# Altium footprint library APSS Connectors.PcbLib: 91 footprints (part 1 of 6)
Each footprint in its own frame and in the unit in brackets; x right, y up, seen from the top. Pads: shape width x height; smd on the part's side, far side on the other; paste and mask are expansions set on the pad; w line width, h text height; cw(c..) or ccw(c..) is an arc to the next point about the centre after c.
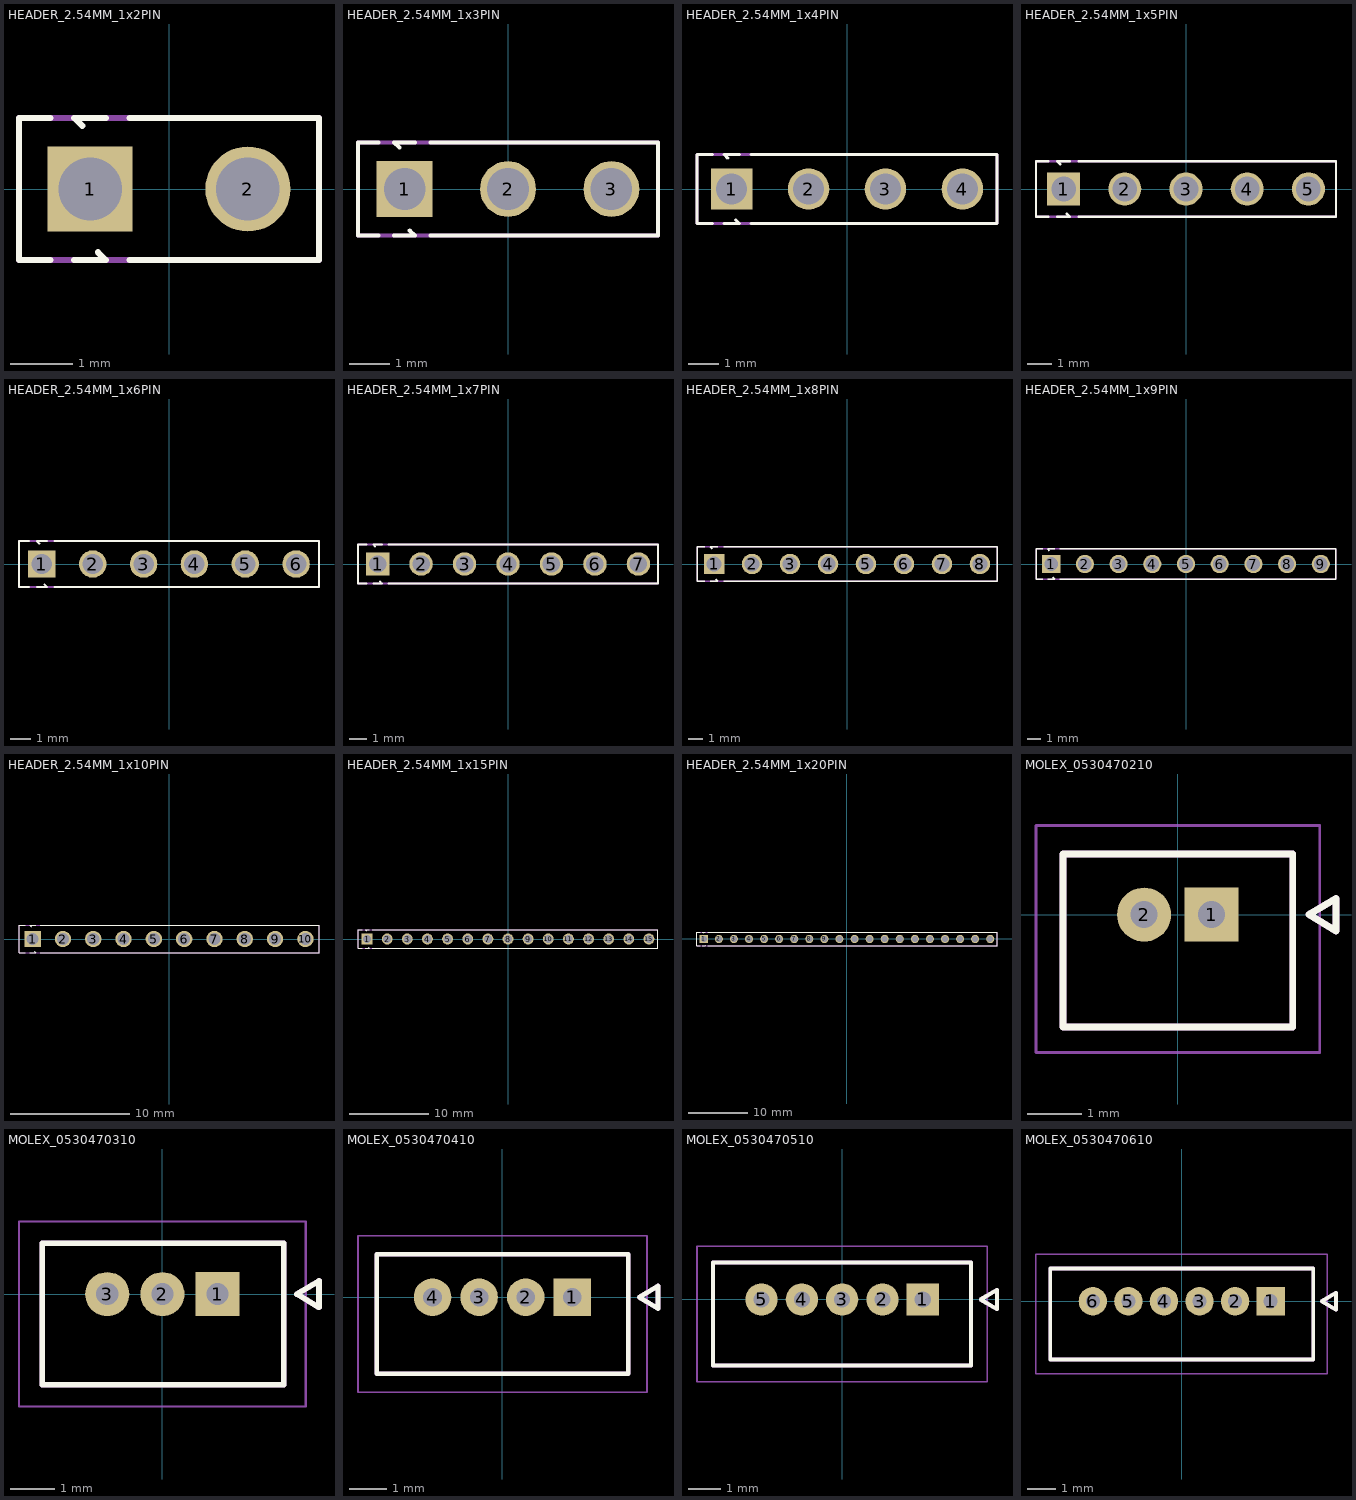
[diagram p0: the footprints below, top view; thin cyan lines are the x and y axes]

## HEADER_2.54MM_1x2PIN [mm]
pads (2):
  rect 1.37x1.37 hole 1.02: 1(-1.27,0)
  round 1.37 hole 1.02: 2(1.27,0)
Top Overlay:
  lines w0.1: -1.905,-1.143 -2.413,-1.143 -2.413,1.143 -1.905,1.143 ; -1.524,-1.143 -1.016,-1.143 -1.143,-1.016 ; -1.397,1.016 -1.524,1.143 -1.016,1.143 ; -0.635,-1.143 2.413,-1.143 2.413,1.143 -0.635,1.143
Mechanical 15:
  lines w0.1: -2.413,-1.143 -2.413,1.143 2.413,1.143 2.413,-1.143 -2.413,-1.143
3D body: height 8.2, standoff -3, extent -2.413,-1.143 2.413,1.143

## HEADER_2.54MM_1x3PIN [mm]
pads (3):
  rect 1.37x1.37 hole 1.02: 1(-2.54,0)
  round 1.37 hole 1.02: 2(0,0) 3(2.54,0)
Top Overlay:
  lines w0.1: -3.175,-1.143 -3.683,-1.143 -3.683,1.143 -3.175,1.143 ; -2.794,-1.143 -2.286,-1.143 -2.413,-1.016 ; -2.667,1.016 -2.794,1.143 -2.286,1.143 ; -1.905,-1.143 3.683,-1.143 3.683,1.143 -1.905,1.143
Mechanical 15:
  lines w0.1: -3.683,-1.143 -3.683,1.143 3.683,1.143 3.683,-1.143 -3.683,-1.143
3D body: height 8.2, standoff -3, extent -3.683,-1.143 3.683,1.143

## HEADER_2.54MM_1x4PIN [mm]
pads (4):
  rect 1.37x1.37 hole 1.02: 1(-3.81,0)
  round 1.37 hole 1.02: 2(-1.27,0) 3(1.27,0) 4(3.81,0)
Top Overlay:
  lines w0.1: -4.445,-1.143 -4.953,-1.143 -4.953,1.143 -4.445,1.143 ; -4.064,-1.143 -3.556,-1.143 -3.683,-1.016 ; -3.937,1.016 -4.064,1.143 -3.556,1.143 ; -3.175,-1.143 4.953,-1.143 4.953,1.143 -3.175,1.143
Mechanical 15:
  lines w0.1: -4.953,-1.143 -4.953,1.143 4.953,1.143 4.953,-1.143 -4.953,-1.143
3D body: height 8.2, standoff -3, extent -4.953,-1.143 4.953,1.143

## HEADER_2.54MM_1x5PIN [mm]
pads (5):
  rect 1.37x1.37 hole 1.02: 1(-5.08,0)
  round 1.37 hole 1.02: 2(-2.54,0) 3(0,0) 4(2.54,0) 5(5.08,0)
Top Overlay:
  lines w0.1: -5.715,-1.143 -6.223,-1.143 -6.223,1.143 -5.715,1.143 ; -5.334,-1.143 -4.826,-1.143 -4.953,-1.016 ; -5.207,1.016 -5.334,1.143 -4.826,1.143 ; -4.445,-1.143 6.223,-1.143 6.223,1.143 -4.445,1.143
Mechanical 15:
  lines w0.1: -6.223,-1.143 6.223,-1.143 6.223,1.143 -6.223,1.143 -6.223,-1.143
3D body: height 8.2, standoff -3, extent -6.213,-1.143 6.223,1.143

## HEADER_2.54MM_1x6PIN [mm]
pads (6):
  rect 1.37x1.37 hole 1.02: 1(-6.35,0)
  round 1.37 hole 1.02: 2(-3.81,0) 3(-1.27,0) 4(1.27,0) 5(3.81,0) 6(6.35,0)
Top Overlay:
  lines w0.1: -6.985,-1.143 -7.493,-1.143 -7.493,1.143 -6.985,1.143 ; -6.604,-1.143 -6.096,-1.143 -6.223,-1.016 ; -6.477,1.016 -6.604,1.143 -6.096,1.143 ; -5.715,-1.143 7.493,-1.143 7.493,1.143 -5.715,1.143
Mechanical 15:
  lines w0.1: -7.493,-1.143 -7.493,1.143 7.493,1.143 7.493,-1.143 -7.493,-1.143
3D body: height 8.2, standoff -3, extent -7.493,-1.143 7.493,1.143

## HEADER_2.54MM_1x7PIN [mm]
pads (7):
  rect 1.37x1.37 hole 1.02: 1(-7.62,0)
  round 1.37 hole 1.02: 2(-5.08,0) 3(-2.54,0) 4(0,0) 5(2.54,0) 6(5.08,0) 7(7.62,0)
Top Overlay:
  lines w0.1: -8.255,-1.143 -8.763,-1.143 -8.763,1.143 -8.255,1.143 ; -7.874,-1.143 -7.366,-1.143 -7.493,-1.016 ; -7.747,1.016 -7.874,1.143 -7.366,1.143 ; -6.985,-1.143 8.763,-1.143 8.763,1.143 -6.985,1.143
Mechanical 15:
  lines w0.1: -8.763,-1.143 -8.763,1.143 8.763,1.143 8.763,-1.143 -8.763,-1.143
3D body: height 8.2, standoff -3, extent -8.763,-1.143 8.763,1.143

## HEADER_2.54MM_1x8PIN [mm]
pads (8):
  rect 1.37x1.37 hole 1.02: 1(-8.89,0)
  round 1.37 hole 1.02: 2(-6.35,0) 3(-3.81,0) 4(-1.27,0) 5(1.27,0) 6(3.81,0) 7(6.35,0) 8(8.89,0)
Top Overlay:
  lines w0.1: -9.525,-1.143 -10.033,-1.143 -10.033,1.143 -9.525,1.143 ; -9.144,-1.143 -8.636,-1.143 -8.763,-1.016 ; -9.017,1.016 -9.144,1.143 -8.636,1.143 ; -8.255,-1.143 10.033,-1.143 10.033,1.143 -8.255,1.143
Mechanical 15:
  lines w0.1: -10.033,-1.143 -10.033,1.143 10.033,1.143 10.033,-1.143 -10.033,-1.143
3D body: height 8.2, standoff -3, extent -10.033,-1.143 10.033,1.143

## HEADER_2.54MM_1x9PIN [mm]
pads (9):
  rect 1.37x1.37 hole 1.02: 1(-10.16,0)
  round 1.37 hole 1.02: 2(-7.62,0) 3(-5.08,0) 4(-2.54,0) 5(0,0) 6(2.54,0) 7(5.08,0) 8(7.62,0) 9(10.16,0)
Top Overlay:
  lines w0.1: -10.795,-1.143 -11.303,-1.143 -11.303,1.143 -10.795,1.143 ; -10.414,-1.143 -9.906,-1.143 -10.033,-1.016 ; -10.287,1.016 -10.414,1.143 -9.906,1.143 ; -9.525,-1.143 11.303,-1.143 11.303,1.143 -9.525,1.143
Mechanical 15:
  lines w0.1: -11.303,-1.143 11.303,-1.143 11.303,1.143 -11.303,1.143 -11.303,-1.143
3D body: height 8.2, standoff -3, extent -11.303,-1.143 11.303,1.143

## HEADER_2.54MM_1x10PIN [mm]
pads (10):
  rect 1.37x1.37 hole 1.02: 1(-11.43,0)
  round 1.37 hole 1.02: 2(-8.89,0) 3(-6.35,0) 4(-3.81,0) 5(-1.27,0) 6(1.27,0) 7(3.81,0) 8(6.35,0) 9(8.89,0) 10(11.43,0)
Top Overlay:
  lines w0.1: -12.065,-1.143 -12.573,-1.143 -12.573,1.143 -12.065,1.143 ; -11.684,-1.143 -11.176,-1.143 -11.303,-1.016 ; -11.557,1.016 -11.684,1.143 -11.176,1.143 ; -10.795,-1.143 12.573,-1.143 12.573,1.143 -10.795,1.143
Mechanical 15:
  lines w0.1: -12.573,-1.143 12.573,-1.143 12.573,1.143 -12.573,1.143 -12.573,-1.143
3D body: height 8.2, standoff -3, extent -12.573,-1.143 12.573,1.143

## HEADER_2.54MM_1x15PIN [mm]
pads (15):
  rect 1.37x1.37 hole 1.02: 1(-17.78,0)
  round 1.37 hole 1.02: 2(-15.24,0) 3(-12.7,0) 4(-10.16,0) 5(-7.62,0) 6(-5.08,0) 7(-2.54,0) 8(0,0) 9(2.54,0) 10(5.08,0) 11(7.62,0) 12(10.16,0) 13(12.7,0) 14(15.24,0) 15(17.78,0)
Top Overlay:
  lines w0.1: -18.415,-1.143 -18.923,-1.143 -18.923,1.143 -18.415,1.143 ; -18.034,-1.143 -17.526,-1.143 -17.653,-1.016 ; -17.907,1.016 -18.034,1.143 -17.526,1.143 ; -17.145,-1.143 18.923,-1.143 18.923,1.143 -17.145,1.143
Mechanical 15:
  lines w0.1: -18.923,-1.143 18.923,-1.143 18.923,1.143 -18.923,1.143 -18.923,-1.143
3D body: height 8.2, standoff -3, extent -18.923,-1.143 18.923,1.143

## HEADER_2.54MM_1x20PIN [mm]
pads (20):
  rect 1.37x1.37 hole 1.02: 1(-24.13,0)
  round 1.37 hole 1.02: 2(-21.59,0) 3(-19.05,0) 4(-16.51,0) 5(-13.97,0) 6(-11.43,0) 7(-8.89,0) 8(-6.35,0) 9(-3.81,0) 10(-1.27,0) 11(1.27,0) 12(3.81,0) 13(6.35,0) 14(8.89,0) 15(11.43,0) 16(13.97,0) 17(16.51,0) 18(19.05,0) 19(21.59,0) 20(24.13,0)
Top Overlay:
  lines w0.1: -24.765,-1.143 -25.273,-1.143 -25.273,1.143 -24.765,1.143 ; -24.384,-1.143 -23.876,-1.143 -24.003,-1.016 ; -24.257,1.016 -24.384,1.143 -23.876,1.143 ; -23.495,-1.143 25.273,-1.143 25.273,1.143 -23.495,1.143
Mechanical 15:
  lines w0.1: -25.273,-1.143 25.273,-1.143 25.273,1.143 -25.273,1.143 -25.273,-1.143
3D body: height 8.2, standoff -3, extent -25.273,-1.143 25.273,1.143

## MOLEX_0530470210 [mm]
height 4.2
pads (2):
  rect 1x1 hole 0.5 mask+0.051: 1(0.625,0)
  round 1 hole 0.5 mask+0.051: 2(-0.625,0)
Top Overlay:
  lines w0.127: -2.125,-2.075 2.125,-2.075 2.125,1.125 -2.125,1.125 -2.125,-2.075 ; 2.425,0 2.925,-0.3 2.925,0.3 2.425,0
Mechanical 13:
  lines w0.127: -2.125,-2.075 -2.125,1.125 2.125,1.125 2.125,-2.075 -2.125,-2.075 ; 2.425,0 2.925,-0.3 2.925,0.3 2.425,0
Mechanical 15:
  lines w0.05: -2.625,-2.55 2.625,-2.55 2.625,1.65 -2.625,1.65 -2.625,-2.55
3D body "530470210.stp": height 4.21, standoff -2.29, extent -2.125,-2.057 2.125,1.143

## MOLEX_0530470310 [mm] "Header - Picoblade 03-pin, TH, STR, 4.2mm height"
height 4.2
pads (3):
  rect 1x1 hole 0.5 mask+0.051: 1(1.25,0)
  round 1 hole 0.5 mask+0.051: 2(0,0) 3(-1.25,0)
Top Overlay:
  lines w0.127: -2.725,-2.05 2.75,-2.05 2.75,1.15 -2.725,1.15 -2.725,-2.05 ; 3.05,0 3.55,0.3 3.55,-0.3 3.05,0
Mechanical 13:
  lines w0.127: -2.725,-2.05 2.75,-2.05 2.75,1.15 -2.725,1.15 -2.725,-2.05 ; 3.05,0 3.55,0.3 3.55,-0.3 3.05,0
Mechanical 15:
  lines w0.05: -3.25,-2.55 -3.25,1.65 3.25,1.65 3.25,-2.55 -3.25,-2.55
3D body "530470310.stp": height 4.21, standoff -2.29, extent -2.753,-2.057 2.747,1.143

## MOLEX_0530470410 [mm]
height 4.2
pads (4):
  rect 1.008x1.008 hole 0.5 mask+0.051: 1(1.875,0)
  round 1.008 hole 0.5 mask+0.051: 2(0.625,0) 3(-0.625,0) 4(-1.875,0)
Top Overlay:
  lines w0.127: -3.375,-2.05 3.375,-2.05 3.375,1.15 -3.375,1.15 -3.375,-2.05 ; 3.675,0 4.175,0.3 4.175,-0.3 3.675,0
Mechanical 13:
  lines w0.127: -3.375,-2.05 3.375,-2.05 3.375,1.15 -3.375,1.15 -3.375,-2.05 ; 3.675,0 4.175,0.3 4.175,-0.3 3.675,0
Mechanical 15:
  lines w0.05: -3.875,-2.55 3.875,-2.55 3.875,1.65 -3.875,1.65 -3.875,-2.55
3D body "530470410.stp": height 4.21, standoff -2.29, extent -3.375,-2.057 3.375,1.143

## MOLEX_0530470510 [mm] "Header - Picoblade 05-pin, TH, STR, 4.2mm height"
height 4.2
pads (5):
  rect 1x1 hole 0.5 mask+0.051: 1(2.5,0)
  round 1 hole 0.5 mask+0.051: 2(1.25,0) 3(0,0) 4(-1.25,0) 5(-2.5,0)
Top Overlay:
  lines w0.127: -4.002,-2.05 -4.002,1.15 4,1.15 4,-2.05 -4.002,-2.05 ; 4.3,0 4.8,-0.3 4.8,0.3 4.3,0
Mechanical 13:
  lines w0.127: -4.002,-2.05 4,-2.05 4,1.15 -4.002,1.15 -4.002,-2.05 ; 4.3,0 4.8,-0.3 4.8,0.3 4.3,0
Mechanical 15:
  lines w0.05: -4.5,-2.55 -4.5,1.65 4.5,1.65 4.5,-2.55 -4.5,-2.55
3D body "0530470510.step": height 4.21, standoff -2.29, extent -4.015,-2.057 3.985,1.143

## MOLEX_0530470610 [mm]
height 4.2
pads (6):
  rect 1x1 hole 0.5 mask+0.051: 1(3.125,0)
  round 1 hole 0.5 mask+0.051: 2(1.875,0) 3(0.625,0) 4(-0.625,0) 5(-1.875,0) 6(-3.125,0)
Top Overlay:
  lines w0.127: -4.625,-2.05 4.625,-2.05 4.625,1.15 -4.625,1.15 -4.625,-2.05 ; 4.925,0 5.425,-0.3 5.425,0.3 4.925,0
Mechanical 13:
  lines w0.127: -4.625,-2.05 4.625,-2.05 4.625,1.15 -4.625,1.15 -4.625,-2.05 ; 4.925,0 5.425,-0.3 5.425,0.3 4.925,0
Mechanical 15:
  lines w0.05: -5.125,-2.55 -5.125,1.65 5.125,1.65 5.125,-2.55 -5.125,-2.55
3D body "530470610.stp": height 4.21, standoff -2.29, extent -4.675,-2.057 4.575,1.143